# Altium schematic symbol library SCH - MCU - STM32 - ST MICROELECTRONICS STM32L4R5Z(G-I)YX WLCSP144.SchLib: 1 symbol
Pins are listed as number, name and electrical type; pins without a type are passive.

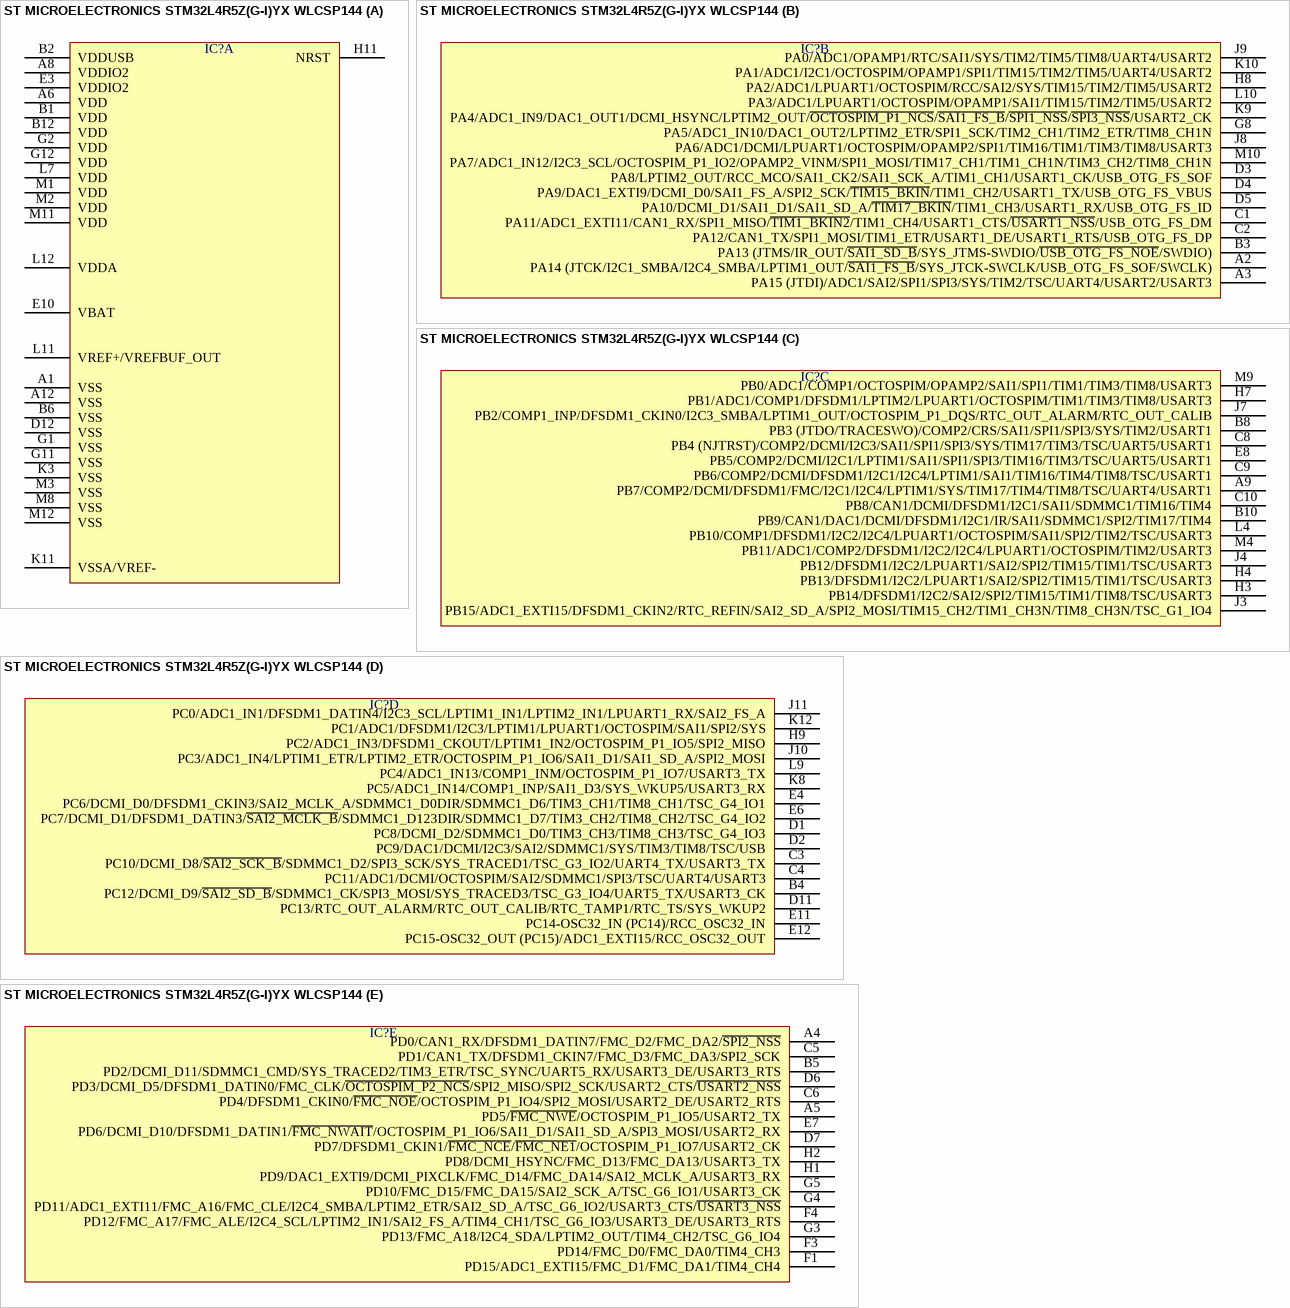
[diagram p0: symbol ST MICROELECTRONICS STM32L4R5Z(G-I)YX WLCSP144]

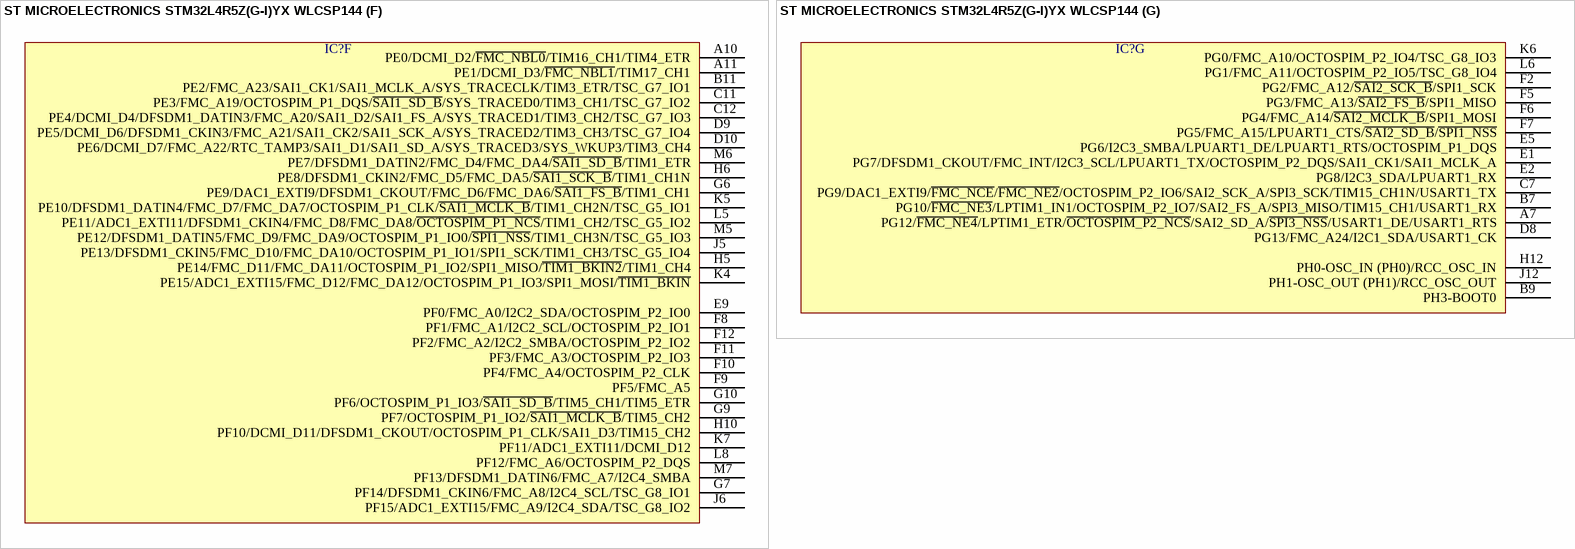
[diagram p1: symbol ST MICROELECTRONICS STM32L4R5Z(G-I)YX WLCSP144]

## ST MICROELECTRONICS STM32L4R5Z(G-I)YX WLCSP144
designator IC?  (value not drawn)
part A pins: A1 VSS, A6 VDD, A8 VDDIO2, A12 VSS, B1 VDD, B2 VDDUSB, B6 VSS, B12 VDD, D12 VSS, E3 VDDIO2, E10 VBAT, G1 VSS, G2 VDD, G11 VSS, G12 VDD, H11 NRST, K3 VSS, K11 VSSA/VREF-, L7 VDD, L11 VREF+/VREFBUF_OUT, L12 VDDA, M1 VDD, M2 VDD, M3 VSS, M8 VSS, M11 VDD, M12 VSS
part B pins: A2 PA14 (JTCK/I2C1_SMBA/I2C4_SMBA/LPTIM1_OUT/~{SAI1_FS_B}/SYS_JTCK-SWCLK/USB_OTG_FS_SOF/SWCLK), A3 PA15 (JTDI)/ADC1/SAI2/SPI1/SPI3/SYS/TIM2/TSC/UART4/USART2/USART3, B3 PA13 (JTMS/IR_OUT/~{SAI1_SD_B}/SYS_JTMS-SWDIO/~{USB_OTG_FS_NOE}/SWDIO), C1 PA11/ADC1_EXTI11/CAN1_RX/SPI1_MISO/~{TIM1_BKIN2}/TIM1_CH4/USART1_CTS/~{USART1_NSS}/USB_OTG_FS_DM, C2 PA12/CAN1_TX/SPI1_MOSI/TIM1_ETR/USART1_DE/USART1_RTS/USB_OTG_FS_DP, D3 PA8/LPTIM2_OUT/RCC_MCO/SAI1_CK2/SAI1_SCK_A/TIM1_CH1/USART1_CK/USB_OTG_FS_SOF, D4 PA9/DAC1_EXTI9/DCMI_D0/SAI1_FS_A/SPI2_SCK/~{TIM15_BKIN}/TIM1_CH2/USART1_TX/USB_OTG_FS_VBUS, D5 PA10/DCMI_D1/SAI1_D1/SAI1_SD_A/~{TIM17_BKIN}/TIM1_CH3/USART1_RX/USB_OTG_FS_ID, G8 PA5/ADC1_IN10/DAC1_OUT2/LPTIM2_ETR/SPI1_SCK/TIM2_CH1/TIM2_ETR/TIM8_CH1N, H8 PA2/ADC1/LPUART1/OCTOSPIM/RCC/SAI2/SYS/TIM15/TIM2/TIM5/USART2, J8 PA6/ADC1/DCMI/LPUART1/OCTOSPIM/OPAMP2/SPI1/TIM16/TIM1/TIM3/TIM8/USART3, J9 PA0/ADC1/OPAMP1/RTC/SAI1/SYS/TIM2/TIM5/TIM8/UART4/USART2, K9 PA4/ADC1_IN9/DAC1_OUT1/DCMI_HSYNC/LPTIM2_OUT/~{OCTOSPIM_P1_NCS}/~{SAI1_FS_B}/~{SPI1_NSS}/~{SPI3_NSS}/USART2_CK, K10 PA1/ADC1/I2C1/OCTOSPIM/OPAMP1/SPI1/TIM15/TIM2/TIM5/UART4/USART2, L10 PA3/ADC1/LPUART1/OCTOSPIM/OPAMP1/SAI1/TIM15/TIM2/TIM5/USART2, M10 PA7/ADC1_IN12/I2C3_SCL/OCTOSPIM_P1_IO2/OPAMP2_VINM/SPI1_MOSI/TIM17_CH1/TIM1_CH1N/TIM3_CH2/TIM8_CH1N
part C pins: A9 PB7/COMP2/DCMI/DFSDM1/FMC/I2C1/I2C4/LPTIM1/SYS/TIM17/TIM4/TIM8/TSC/UART4/USART1, B8 PB3 (JTDO/TRACESWO)/COMP2/CRS/SAI1/SPI1/SPI3/SYS/TIM2/USART1, B10 PB9/CAN1/DAC1/DCMI/DFSDM1/I2C1/IR/SAI1/SDMMC1/SPI2/TIM17/TIM4, C8 PB4 (NJTRST)/COMP2/DCMI/I2C3/SAI1/SPI1/SPI3/SYS/TIM17/TIM3/TSC/UART5/USART1, C9 PB6/COMP2/DCMI/DFSDM1/I2C1/I2C4/LPTIM1/SAI1/TIM16/TIM4/TIM8/TSC/USART1, C10 PB8/CAN1/DCMI/DFSDM1/I2C1/SAI1/SDMMC1/TIM16/TIM4, E8 PB5/COMP2/DCMI/I2C1/LPTIM1/SAI1/SPI1/SPI3/TIM16/TIM3/TSC/UART5/USART1, H3 PB14/DFSDM1/I2C2/SAI2/SPI2/TIM15/TIM1/TIM8/TSC/USART3, H4 PB13/DFSDM1/I2C2/LPUART1/SAI2/SPI2/TIM15/TIM1/TSC/USART3, H7 PB1/ADC1/COMP1/DFSDM1/LPTIM2/LPUART1/OCTOSPIM/TIM1/TIM3/TIM8/USART3, J3 PB15/ADC1_EXTI15/DFSDM1_CKIN2/RTC_REFIN/SAI2_SD_A/SPI2_MOSI/TIM15_CH2/TIM1_CH3N/TIM8_CH3N/TSC_G1_IO4, J4 PB12/DFSDM1/I2C2/LPUART1/SAI2/SPI2/TIM15/TIM1/TSC/USART3, J7 PB2/COMP1_INP/DFSDM1_CKIN0/I2C3_SMBA/LPTIM1_OUT/OCTOSPIM_P1_DQS/RTC_OUT_ALARM/RTC_OUT_CALIB, L4 PB10/COMP1/DFSDM1/I2C2/I2C4/LPUART1/OCTOSPIM/SAI1/SPI2/TIM2/TSC/USART3, M4 PB11/ADC1/COMP2/DFSDM1/I2C2/I2C4/LPUART1/OCTOSPIM/TIM2/USART3, M9 PB0/ADC1/COMP1/OCTOSPIM/OPAMP2/SAI1/SPI1/TIM1/TIM3/TIM8/USART3
part D pins: B4 PC12/DCMI_D9/~{SAI2_SD_B}/SDMMC1_CK/SPI3_MOSI/SYS_TRACED3/TSC_G3_IO4/UART5_TX/USART3_CK, C3 PC10/DCMI_D8/~{SAI2_SCK_B}/SDMMC1_D2/SPI3_SCK/SYS_TRACED1/TSC_G3_IO2/UART4_TX/USART3_TX, C4 PC11/ADC1/DCMI/OCTOSPIM/SAI2/SDMMC1/SPI3/TSC/UART4/USART3, D1 PC8/DCMI_D2/SDMMC1_D0/TIM3_CH3/TIM8_CH3/TSC_G4_IO3, D2 PC9/DAC1/DCMI/I2C3/SAI2/SDMMC1/SYS/TIM3/TIM8/TSC/USB, D11 PC13/RTC_OUT_ALARM/RTC_OUT_CALIB/RTC_TAMP1/RTC_TS/SYS_WKUP2, E4 PC6/DCMI_D0/DFSDM1_CKIN3/SAI2_MCLK_A/SDMMC1_D0DIR/SDMMC1_D6/TIM3_CH1/TIM8_CH1/TSC_G4_IO1, E6 PC7/DCMI_D1/DFSDM1_DATIN3/~{SAI2_MCLK_B}/SDMMC1_D123DIR/SDMMC1_D7/TIM3_CH2/TIM8_CH2/TSC_G4_IO2, E11 PC14-OSC32_IN (PC14)/RCC_OSC32_IN, E12 PC15-OSC32_OUT (PC15)/ADC1_EXTI15/RCC_OSC32_OUT, H9 PC2/ADC1_IN3/DFSDM1_CKOUT/LPTIM1_IN2/OCTOSPIM_P1_IO5/SPI2_MISO, J10 PC3/ADC1_IN4/LPTIM1_ETR/LPTIM2_ETR/OCTOSPIM_P1_IO6/SAI1_D1/SAI1_SD_A/SPI2_MOSI, J11 PC0/ADC1_IN1/DFSDM1_DATIN4/I2C3_SCL/LPTIM1_IN1/LPTIM2_IN1/LPUART1_RX/SAI2_FS_A, K8 PC5/ADC1_IN14/COMP1_INP/SAI1_D3/SYS_WKUP5/USART3_RX, K12 PC1/ADC1/DFSDM1/I2C3/LPTIM1/LPUART1/OCTOSPIM/SAI1/SPI2/SYS, L9 PC4/ADC1_IN13/COMP1_INM/OCTOSPIM_P1_IO7/USART3_TX
part E pins: A4 PD0/CAN1_RX/DFSDM1_DATIN7/FMC_D2/FMC_DA2/~{SPI2_NSS}, A5 PD5/~{FMC_NWE}/OCTOSPIM_P1_IO5/USART2_TX, B5 PD2/DCMI_D11/SDMMC1_CMD/SYS_TRACED2/TIM3_ETR/TSC_SYNC/UART5_RX/USART3_DE/USART3_RTS, C5 PD1/CAN1_TX/DFSDM1_CKIN7/FMC_D3/FMC_DA3/SPI2_SCK, C6 PD4/DFSDM1_CKIN0/~{FMC_NOE}/OCTOSPIM_P1_IO4/SPI2_MOSI/USART2_DE/USART2_RTS, D6 PD3/DCMI_D5/DFSDM1_DATIN0/FMC_CLK/~{OCTOSPIM_P2_NCS}/SPI2_MISO/SPI2_SCK/USART2_CTS/~{USART2_NSS}, D7 PD7/DFSDM1_CKIN1/~{FMC_NCE}/~{FMC_NE1}/OCTOSPIM_P1_IO7/USART2_CK, E7 PD6/DCMI_D10/DFSDM1_DATIN1/~{FMC_NWAIT}/OCTOSPIM_P1_IO6/SAI1_D1/SAI1_SD_A/SPI3_MOSI/USART2_RX, F1 PD15/ADC1_EXTI15/FMC_D1/FMC_DA1/TIM4_CH4, F3 PD14/FMC_D0/FMC_DA0/TIM4_CH3, F4 PD12/FMC_A17/FMC_ALE/I2C4_SCL/LPTIM2_IN1/SAI2_FS_A/TIM4_CH1/TSC_G6_IO3/USART3_DE/USART3_RTS, G3 PD13/FMC_A18/I2C4_SDA/LPTIM2_OUT/TIM4_CH2/TSC_G6_IO4, G4 PD11/ADC1_EXTI11/FMC_A16/FMC_CLE/I2C4_SMBA/LPTIM2_ETR/SAI2_SD_A/TSC_G6_IO2/USART3_CTS/~{USART3_NSS}, G5 PD10/FMC_D15/FMC_DA15/SAI2_SCK_A/TSC_G6_IO1/USART3_CK, H1 PD9/DAC1_EXTI9/DCMI_PIXCLK/FMC_D14/FMC_DA14/SAI2_MCLK_A/USART3_RX, H2 PD8/DCMI_HSYNC/FMC_D13/FMC_DA13/USART3_TX
part F pins: A10 PE0/DCMI_D2/~{FMC_NBL0}/TIM16_CH1/TIM4_ETR, A11 PE1/DCMI_D3/~{FMC_NBL1}/TIM17_CH1, B11 PE2/FMC_A23/SAI1_CK1/SAI1_MCLK_A/SYS_TRACECLK/TIM3_ETR/TSC_G7_IO1, C11 PE3/FMC_A19/OCTOSPIM_P1_DQS/~{SAI1_SD_B}/SYS_TRACED0/TIM3_CH1/TSC_G7_IO2, C12 PE4/DCMI_D4/DFSDM1_DATIN3/FMC_A20/SAI1_D2/SAI1_FS_A/SYS_TRACED1/TIM3_CH2/TSC_G7_IO3, D9 PE5/DCMI_D6/DFSDM1_CKIN3/FMC_A21/SAI1_CK2/SAI1_SCK_A/SYS_TRACED2/TIM3_CH3/TSC_G7_IO4, D10 PE6/DCMI_D7/FMC_A22/RTC_TAMP3/SAI1_D1/SAI1_SD_A/SYS_TRACED3/SYS_WKUP3/TIM3_CH4, E9 PF0/FMC_A0/I2C2_SDA/OCTOSPIM_P2_IO0, F8 PF1/FMC_A1/I2C2_SCL/OCTOSPIM_P2_IO1, F9 PF5/FMC_A5, F10 PF4/FMC_A4/OCTOSPIM_P2_CLK, F11 PF3/FMC_A3/OCTOSPIM_P2_IO3, F12 PF2/FMC_A2/I2C2_SMBA/OCTOSPIM_P2_IO2, G6 PE9/DAC1_EXTI9/DFSDM1_CKOUT/FMC_D6/FMC_DA6/~{SAI1_FS_B}/TIM1_CH1, G7 PF14/DFSDM1_CKIN6/FMC_A8/I2C4_SCL/TSC_G8_IO1, G9 PF7/OCTOSPIM_P1_IO2/~{SAI1_MCLK_B}/TIM5_CH2, G10 PF6/OCTOSPIM_P1_IO3/~{SAI1_SD_B}/TIM5_CH1/TIM5_ETR, H5 PE14/FMC_D11/FMC_DA11/OCTOSPIM_P1_IO2/SPI1_MISO/~{TIM1_BKIN2}/TIM1_CH4, H6 PE8/DFSDM1_CKIN2/FMC_D5/FMC_DA5/~{SAI1_SCK_B}/TIM1_CH1N, H10 PF10/DCMI_D11/DFSDM1_CKOUT/OCTOSPIM_P1_CLK/SAI1_D3/TIM15_CH2, J5 PE13/DFSDM1_CKIN5/FMC_D10/FMC_DA10/OCTOSPIM_P1_IO1/SPI1_SCK/TIM1_CH3/TSC_G5_IO4, J6 PF15/ADC1_EXTI15/FMC_A9/I2C4_SDA/TSC_G8_IO2, K4 PE15/ADC1_EXTI15/FMC_D12/FMC_DA12/OCTOSPIM_P1_IO3/SPI1_MOSI/~{TIM1_BKIN}, K5 PE10/DFSDM1_DATIN4/FMC_D7/FMC_DA7/OCTOSPIM_P1_CLK/~{SAI1_MCLK_B}/TIM1_CH2N/TSC_G5_IO1, K7 PF11/ADC1_EXTI11/DCMI_D12, L5 PE11/ADC1_EXTI11/DFSDM1_CKIN4/FMC_D8/FMC_DA8/~{OCTOSPIM_P1_NCS}/TIM1_CH2/TSC_G5_IO2, L8 PF12/FMC_A6/OCTOSPIM_P2_DQS, M5 PE12/DFSDM1_DATIN5/FMC_D9/FMC_DA9/OCTOSPIM_P1_IO0/~{SPI1_NSS}/TIM1_CH3N/TSC_G5_IO3, M6 PE7/DFSDM1_DATIN2/FMC_D4/FMC_DA4/~{SAI1_SD_B}/TIM1_ETR, M7 PF13/DFSDM1_DATIN6/FMC_A7/I2C4_SMBA
part G pins: A7 PG12/~{FMC_NE4}/LPTIM1_ETR/~{OCTOSPIM_P2_NCS}/SAI2_SD_A/~{SPI3_NSS}/USART1_DE/USART1_RTS, B7 PG10/~{FMC_NE3}/LPTIM1_IN1/OCTOSPIM_P2_IO7/SAI2_FS_A/SPI3_MISO/TIM15_CH1/USART1_RX, B9 PH3-BOOT0, C7 PG9/DAC1_EXTI9/~{FMC_NCE}/~{FMC_NE2}/OCTOSPIM_P2_IO6/SAI2_SCK_A/SPI3_SCK/TIM15_CH1N/USART1_TX, D8 PG13/FMC_A24/I2C1_SDA/USART1_CK, E1 PG7/DFSDM1_CKOUT/FMC_INT/I2C3_SCL/LPUART1_TX/OCTOSPIM_P2_DQS/SAI1_CK1/SAI1_MCLK_A, E2 PG8/I2C3_SDA/LPUART1_RX, E5 PG6/I2C3_SMBA/LPUART1_DE/LPUART1_RTS/OCTOSPIM_P1_DQS, F2 PG2/FMC_A12/~{SAI2_SCK_B}/SPI1_SCK, F5 PG3/FMC_A13/~{SAI2_FS_B}/SPI1_MISO, F6 PG4/FMC_A14/~{SAI2_MCLK_B}/SPI1_MOSI, F7 PG5/FMC_A15/LPUART1_CTS/~{SAI2_SD_B}/~{SPI1_NSS}, H12 PH0-OSC_IN (PH0)/RCC_OSC_IN, J12 PH1-OSC_OUT (PH1)/RCC_OSC_OUT, K6 PG0/FMC_A10/OCTOSPIM_P2_IO4/TSC_G8_IO3, L6 PG1/FMC_A11/OCTOSPIM_P2_IO5/TSC_G8_IO4